# EAGLE library part MC33074ADTBG (library ON Semiconductor_By_element14_Batch_1)
Single Supply 3.0 V to 44 V OPAMPs
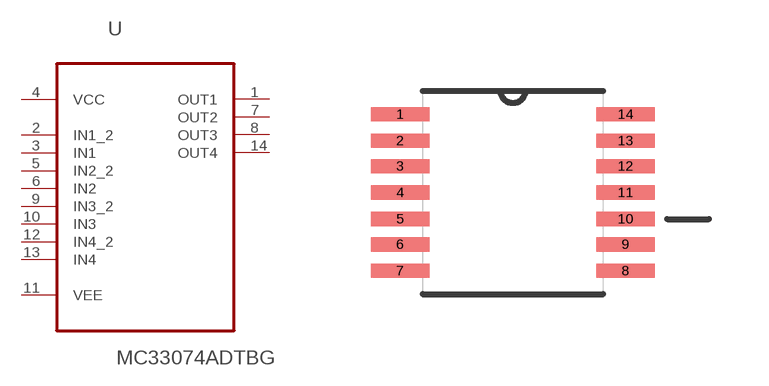
[diagram p336: symbol with the pads of SOP65P640X120-14N; footprint SOP65P640X120-14N]

Designator prefix U

## MC33074ADTBG (MPN: MC33074ADTBG; OC_FARNELL: 1705871; OC_NEWARK: 42K0572; P1I: o; PACKAGE: TSSOP-14; SUPPLIER: On Semiconductor)  [SOP65P640X120-14N]
1  OUT1  out
2  IN1_2  in
3  IN1  in
4  VCC  pwr
5  IN2_2  in
6  IN2  in
7  OUT2  out
8  OUT3  out
9  IN3_2  in
10  IN3  in
11  VEE  pwr
12  IN4_2  in
13  IN4  in
14  OUT4  out

## Footprint SOP65P640X120-14N (pad centres in mm)
smd 1.473 x 0.356: 1 -2.819,1.956; 2 -2.819,1.295; 3 -2.819,0.66; 4 -2.819,0; 5 -2.819,-0.66; 6 -2.819,-1.295; 7 -2.819,-1.956; 8 2.819,-1.956; 9 2.819,-1.295; 10 2.819,-0.66; 11 2.819,0; 12 2.819,0.66; 13 2.819,1.295; 14 2.819,1.956